# Altium schematic symbol library Connectors.SchLib: 17 symbols
Pins are listed as number, name and electrical type; pins without a type are passive.

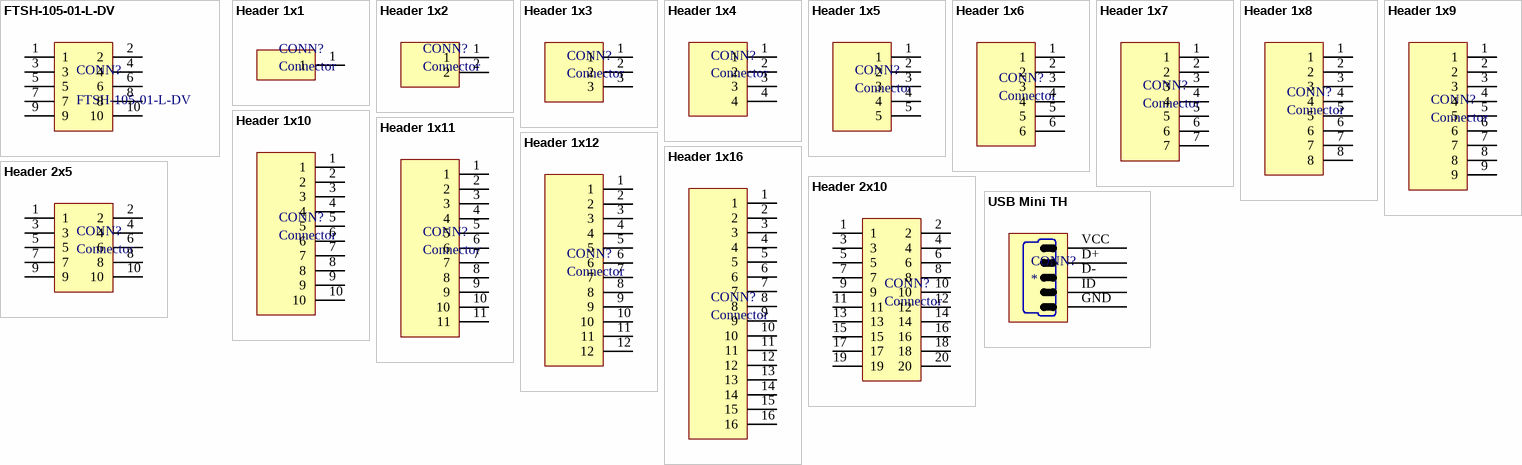
[diagram p0: symbols FTSH-105-01-L-DV to USB Mini TH]

## FTSH-105-01-L-DV
designator CONN?
SAMTEC - FTSH-105-01-L-DV - MACHO, 1,27 MM, SMD, 10 VÍAS; Serie: FTSH; Espaciado, Paso: 1.27; Núm. de Filas: 2; Núm. de Contactos: 10; Género: Conector; Contacto, Terminación: Soldar; Contacto, Chapado: Oro; Contacto, Material: Fosfuro de Bronce; Sustancia Extremadamente Preocupante (SVHC): No SVHC (16-Dec-2013); Intensidad Nominal: 1.75; Método de Terminación: Soldable; Temperatura de Trabajo Máx.: 125; Temperatura de Trabajo Mín.: -55; Supplier 1: Farnell; Manufacturer: SAMTEC; Manufacturer Part Number: FTSH-105-01-L-DV; RoHS: YES; Stock 1: 5281; Pricing 1: 1=2,13, 10=1,85, 50=1,77, 100=1,69, 250=1,63, 400=1,3, 400=1,17, 4000=1,05 (EUR); Color: Black; Espaciado de Cable: 1.27; Paso de Fila: 1.27; ComponentLink1URL: http://www.farnell.com/cad/320908.pdf; ComponentLink1Description: http://www.farnell.com/cad/320908.pdf; ComponentLink2URL: http://www.farnell.com/datasheets/81359.pdf; ComponentLink2Description: http://www.farnell.com/datasheets/81359.pdf
footprint FTSH-105-01-L-DV
pins: 1, 2, 3, 4, 5, 6, 7, 8, 9, 10

## Header 1x1
designator CONN?, comment Connector
footprint 1x1x2.54 Pin Header TH V (1x1x2.54 Pin Header TH Vertical)
pins: 1

## Header 1x2
designator CONN?, comment Connector
footprint 1x2x2.54 Pin Header TH V
pins: 1, 2

## Header 1x3
designator CONN?, comment Connector
footprint 1x3x2.54 Pin Header TH V
pins: 1, 2, 3

## Header 1x4
designator CONN?, comment Connector
footprint 1x4x2.54 Pin Header TH V
pins: 1, 2, 3, 4

## Header 1x5
designator CONN?, comment Connector
footprint 1x5x2.54 Pin Header TH V
pins: 1, 2, 3, 4, 5

## Header 1x6
designator CONN?, comment Connector
footprint 1x6x2.54 Pin Header TH V
pins: 1, 2, 3, 4, 5, 6

## Header 1x7
designator CONN?, comment Connector
footprint 1x7x2.54 Pin Header TH V
pins: 1, 2, 3, 4, 5, 6, 7

## Header 1x8
designator CONN?, comment Connector
footprint 1x8x2.54 Pin Header TH V
pins: 1, 2, 3, 4, 5, 6, 7, 8

## Header 1x9
designator CONN?, comment Connector
footprint 1x9x2.54 Pin Header TH V
pins: 1, 2, 3, 4, 5, 6, 7, 8, 9

## Header 1x10
designator CONN?, comment Connector
footprint 1x10x2.54 Pin Header TH V
pins: 1, 2, 3, 4, 5, 6, 7, 8, 9, 10

## Header 1x11
designator CONN?, comment Connector
footprint 1x11x2.54 Pin Header TH V
pins: 1, 2, 3, 4, 5, 6, 7, 8, 9, 10, 11

## Header 1x12
designator CONN?, comment Connector
footprint 1x12x2.54 Pin Header TH V
pins: 1, 2, 3, 4, 5, 6, 7, 8, 9, 10, 11, 12

## Header 1x16
designator CONN?, comment Connector
footprint 1x16x2.54 Pin Header TH V
pins: 1, 2, 3, 4, 5, 6, 7, 8, 9, 10, 11, 12, 13, 14, 15, 16

## Header 2x5
designator CONN?, comment Connector
footprint 2x5x2.54 Pin Header TH V
pins: 1, 2, 3, 4, 5, 6, 7, 8, 9, 10

## Header 2x10
designator CONN?, comment Connector
footprint 2x10x2.54 Pin Header TH V
pins: 1, 2, 3, 4, 5, 6, 7, 8, 9, 10, 11, 12, 13, 14, 15, 16, 17, 18, 19, 20

## USB Mini TH
designator CONN?
footprint USB Mini TH (USB Mini MOLEX 548190519)
pins: D+ 2, D- 3, GND 5, ID 4, VCC